# Altium schematic symbol library MOS.SchLib: 32 symbols
Pins are listed as number, name and electrical type; pins without a type are passive.

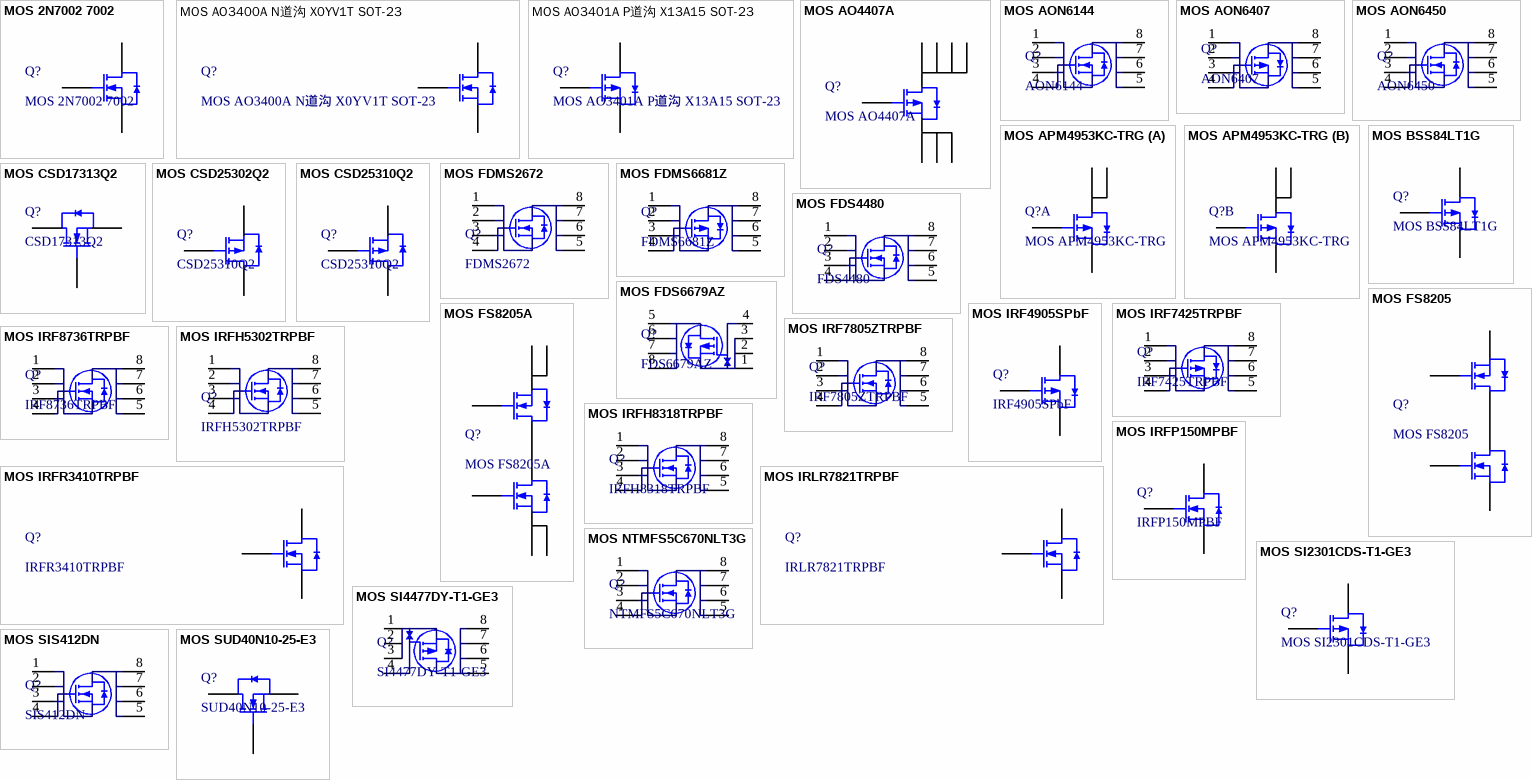
[diagram p0: symbols MOS 2N7002 7002 to MOS SUD40N10-25-E3]

## MOS 2N7002 7002
designator Q?
MOS(场效应管); ComponentLink1Description: 供应商链接; ComponentLink1URL: http://www.szlcsc.com/product/details_9040.html; Package: SOT-23(SOT-23-3); Supplier: LC; SuppliersPartNumber: C8545
footprint SOT23-3
pins: 1 G, 2 S, 3 D

## MOS AO3400A N道沟 X0YV1T SOT-23
designator Q?
MOS(场效应管); ComponentLink1Description: 供应商链接; ComponentLink1URL: http://www.szlcsc.com/product/details_21629.html; Package: SOT-23; Supplier: LC; SuppliersPartNumber: C20917
footprint SOT23-3L (http://www.aosmd.com/res/packaging_information/SOT-23-3L.pdf)
pins: 1 G, 2 S, 3 D

## MOS AO3401A P道沟 X13A15 SOT-23
designator Q?
MOS(场效应管); ComponentLink1Description: 供应商链接; ComponentLink1URL: http://www.szlcsc.com/product/details_15801.html; Package: SOT-23; Supplier: LC; SuppliersPartNumber: C15127
footprint SOT23-3L (http://www.aosmd.com/res/packaging_information/SOT-23-3L.pdf)
pins: 1 G, 2 S, 3 D

## MOS AO4407A
designator Q?
MOS(场效应管); ComponentLink1Description: 供应商链接; ComponentLink1URL: http://www.szlcsc.com/product/details_16754.html; Package: SOIC-8_150mil; Supplier: LC; SuppliersPartNumber: C16072
footprint SOIC8_150mil
pins: 1 S, 2 S, 3 S, 4 G, 5 D, 6 D, 7 D, 8 D

## MOS AON6144
designator Q?, comment AON6144
NMOS(场效应管); Package: SOT-23; Supplier: LC; SuppliersPartNumber: C15127; ComponentLink1Description: 立创商城链接; ComponentLink1URL: https://item.szlcsc.com/144446.html
footprint PowerPAK8_1212
pins: 1 S, 2 S, 3 S, 4 G, 5 D, 6 D, 7 D, 8 D

## MOS AON6407
designator Q?, comment AON6407
PMOS(场效应管); ComponentLink1Description: 供应商链接; ComponentLink1URL: http://www.szlcsc.com/product/details_15801.html; Package: SOT-23; Supplier: LC; SuppliersPartNumber: C15127
footprint DFN8 5X6
pins: 1 S, 2 S, 3 S, 4 G, 5 D, 6 D, 7 D, 8 D

## MOS AON6450
designator Q?, comment AON6450
NMOS(场效应管); ComponentLink1Description: 供应商链接; ComponentLink1URL: http://www.szlcsc.com/product/details_15801.html; Package: SOT-23; Supplier: LC; SuppliersPartNumber: C15127
footprint DFN8 5X6
pins: 1 S, 2 S, 3 S, 4 G, 5 D, 6 D, 7 D, 8 D

## MOS APM4953KC-TRG
designator Q?
MOS(场效应管); ComponentLink1Description: 供应商链接; ComponentLink1URL: http://www.szlcsc.com/product/details_21609.html; Package: SOP-8_150mil; Supplier: LC; SuppliersPartNumber: C20897
footprint SOP8_150MIL
part A pins: 1 S, 2 G, 7 D, 8 D
part B pins: 3 S, 4 G, 5 D, 6 D

## MOS BSS84LT1G
designator Q?
MOS(场效应管); ComponentLink1Description: 供应商链接; ComponentLink1URL: http://www.szlcsc.com/product/details_8986.html; Package: SOT-23(SOT-23-3); Supplier: LC; SuppliersPartNumber: C8492
footprint SOT23-3
pins: 1 G, 2 S, 3 D

## MOS CSD17313Q2
designator Q?, comment CSD17313Q2
NMOS(场效应管)
footprint VQFN8 2.0X2.0
pins: 1 D, 2 D, 3 G, 4 S, 5 D, 6 D, 7 S, 8 D

## MOS CSD25302Q2
designator Q?, comment CSD25310Q2
PMOS(场效应管)
footprint VQFN8 2.0X2.0
pins: 1 S, 2 S, 3 G, 4 D, 5 S, 6 S, 7 D, 8 S

## MOS CSD25310Q2
designator Q?, comment CSD25310Q2
PMOS(场效应管)
footprint VQFN8 2.0X2.0
pins: 1 S, 2 S, 3 G, 4 D, 5 S, 6 S, 7 D, 8 S

## MOS FDMS2672
designator Q?, comment FDMS2672
NMOS(场效应管); ComponentLink1Description: 供应商链接; ComponentLink1URL: http://www.szlcsc.com/product/details_15801.html; Package: SOT-23; Supplier: LC; SuppliersPartNumber: C15127
footprint POWER 5X6 (Footprint not found)
pins: 1 S, 2 S, 3 S, 4 G, 5 D, 6 D, 7 D, 8 D

## MOS FDMS6681Z
designator Q?, comment FDMS6681Z
PMOS(场效应管); Package: SOT-23; Supplier: LC; SuppliersPartNumber: C15127; ComponentLink1Description: 立创商城链接; ComponentLink1URL: https://item.szlcsc.com/224464.html
footprint DFN8 5X6
pins: 1 S, 2 S, 3 S, 4 G, 5 D, 6 D, 7 D, 8 D

## MOS FDS4480
designator Q?, comment FDS4480
NMOS(场效应管); ComponentLink1Description: 供应商链接; ComponentLink1URL: http://www.szlcsc.com/product/details_15801.html; Package: SOT-23; Supplier: LC; SuppliersPartNumber: C15127
footprint SO8_150MIL
pins: 1 S, 2 S, 3 S, 4 G, 5 D, 6 D, 7 D, 8 D

## MOS FDS6679AZ
designator Q?, comment FDS6679AZ
PMOS(场效应管); ComponentLink1Description: 供应商链接; ComponentLink1URL: http://www.szlcsc.com/product/details_15801.html; Package: SOT-23; Supplier: LC; SuppliersPartNumber: C15127
footprint SOIC8_150mil
pins: 1 S, 2 S, 3 S, 4 G, 5 D, 6 D, 7 D, 8 D

## MOS FS8205
designator Q?
MOS(场效应管); ComponentLink1Description: 供应商链接; ComponentLink1URL: http://www.szlcsc.com/product/details_33217.html; Package: SOT-23-6; Supplier: LC; SuppliersPartNumber: C32254
footprint SOT23-6
pins: 1 S, 2 D, 3 S, 4 G, 5 D, 6 G

## MOS FS8205A
designator Q?
MOS(场效应管); ComponentLink1Description: 供应商链接; ComponentLink1URL: http://www.szlcsc.com/product/details_16734.html; Package: TSSOP-8_3x4.4x065P; Supplier: LC; SuppliersPartNumber: C16052
footprint TSSOP8 3X4.4
pins: 1 D, 2 S, 3 S, 4 G, 5 G, 6 S, 7 S, 8 D

## MOS IRF4905SPbF
designator Q?, comment IRF4905SPbF
PMOS(场效应管); ComponentLink1Description: 供应商链接; ComponentLink1URL: http://www.szlcsc.com/product/details_15801.html; Package: SOT-23; Supplier: LC; SuppliersPartNumber: C15127
footprint TO263-2
pins: 1 G, 2 D, 3 S

## MOS IRF7425TRPBF
designator Q?, comment IRF7425TRPBF
PMOS(场效应管); ComponentLink1Description: 供应商链接; ComponentLink1URL: http://www.szlcsc.com/product/details_15801.html; Package: SOT-23; Supplier: LC; SuppliersPartNumber: C15127
footprint SOIC8_150mil
pins: 1 S, 2 S, 3 S, 4 G, 5 D, 6 D, 7 D, 8 D

## MOS IRF7805ZTRPBF
designator Q?, comment IRF7805ZTRPBF
NMOS(场效应管); ComponentLink1Description: 供应商链接; ComponentLink1URL: http://www.szlcsc.com/product/details_15801.html; Package: SOT-23; Supplier: LC; SuppliersPartNumber: C15127
footprint SOIC8_150mil
pins: 1 S, 2 S, 3 S, 4 G, 5 D, 6 D, 7 D, 8 D

## MOS IRF8736TRPBF
designator Q?, comment IRF8736TRPBF
NMOS(场效应管); ComponentLink1Description: 供应商链接; ComponentLink1URL: http://www.szlcsc.com/product/details_15801.html; Package: SOT-23; Supplier: LC; SuppliersPartNumber: C15127
footprint SOIC8_150mil
pins: 1 S, 2 S, 3 S, 4 G, 5 D, 6 D, 7 D, 8 D

## MOS IRFH5302TRPBF
designator Q?, comment IRFH5302TRPBF
NMOS(场效应管); ComponentLink1Description: 供应商链接; ComponentLink1URL: http://www.szlcsc.com/product/details_15801.html; Package: SOT-23; Supplier: LC; SuppliersPartNumber: C15127
footprint VDFN8 6X5
pins: 1 S, 2 S, 3 S, 4 G, 5 D, 6 D, 7 D, 8 D

## MOS IRFH8318TRPBF
designator Q?, comment IRFH8318TRPBF
NMOS(场效应管); ComponentLink1Description: 供应商链接; ComponentLink1URL: http://www.szlcsc.com/product/details_15801.html; Package: SOT-23; Supplier: LC; SuppliersPartNumber: C15127
footprint PQFN8 5x6
pins: 1 S, 2 S, 3 S, 4 G, 5 D, 6 D, 7 D, 8 D

## MOS IRFP150MPBF
designator Q?, comment IRFP150MPBF
NMOS(场效应管); ComponentLink1Description: 供应商链接; ComponentLink1URL: http://www.szlcsc.com/product/details_15801.html; Package: SOT-23; Supplier: LC; SuppliersPartNumber: C15127
footprint TO247A (247，3脚立式封装)
footprint TO247B (247，3脚卧式封装)
pins: 1 G, 2 D, 3 S

## MOS IRFR3410TRPBF
designator Q?, comment IRFR3410TRPBF
NMOS(场效应管); ComponentLink1Description: 供应商链接; ComponentLink1URL: http://www.szlcsc.com/product/details_21629.html; Package: SOT-23; Supplier: LC; SuppliersPartNumber: C20917
footprint TO252 (252晶体管)
pins: 1 G, 2 D, 3 S

## MOS IRLR7821TRPBF
designator Q?, comment IRLR7821TRPBF
NMOS(场效应管); ComponentLink1Description: 供应商链接; ComponentLink1URL: http://www.szlcsc.com/product/details_21629.html; Package: SOT-23; Supplier: LC; SuppliersPartNumber: C20917
footprint TO252 (252晶体管)
pins: 1 G, 2 D, 3 S

## MOS NTMFS5C670NLT3G
designator Q?, comment NTMFS5C670NLT3G
NMOS(场效应管); Package: SOT-23; Supplier: LC; SuppliersPartNumber: C15127; ComponentLink1Description: 立创商城链接; ComponentLink1URL: https://item.szlcsc.com/196326.html
footprint PQFN8 5x6
pins: 1 S, 2 S, 3 S, 4 G, 5 D, 6 D, 7 D, 8 D

## MOS SI2301CDS-T1-GE3
designator Q?
MOS(场效应管); ComponentLink1Description: 供应商链接; ComponentLink1URL: http://www.szlcsc.com/product/details_11030.html; Package: SOT-23(SOT-23-3); Supplier: LC; SuppliersPartNumber: C10487
footprint SOT23-3
pins: 1 G, 2 S, 3 D

## MOS SI4477DY-T1-GE3
designator Q?, comment SI4477DY-T1-GE3
PMOS(场效应管); ComponentLink1Description: 供应商链接; ComponentLink1URL: http://www.szlcsc.com/product/details_15801.html; Package: SOT-23; Supplier: LC; SuppliersPartNumber: C15127
footprint SOIC8_150mil
pins: 1 S, 2 S, 3 S, 4 G, 5 D, 6 D, 7 D, 8 D

## MOS SIS412DN
designator Q?, comment SIS412DN
NMOS(场效应管); ComponentLink1Description: 供应商链接; ComponentLink1URL: http://www.szlcsc.com/product/details_15801.html; Package: SOT-23; Supplier: LC; SuppliersPartNumber: C15127
footprint PowerPAK8_1212 (Footprint not found)
pins: 1 S, 2 S, 3 S, 4 G, 5 D, 6 D, 7 D, 8 D

## MOS SUD40N10-25-E3
designator Q?, comment SUD40N10-25-E3
NMOS(场效应管)
footprint TO252 (252晶体管)
pins: 1 G, 2 D, 3 S